# Altium footprint library 36911600000.PcbLib: 1 footprints
Each footprint in its own frame and in the unit in brackets; x right, y up, seen from the top. Pads: shape width x height; smd on the part's side, far side on the other; paste and mask are expansions set on the pad; w line width, h text height; cw(c..) or ccw(c..) is an arc to the next point about the centre after c.
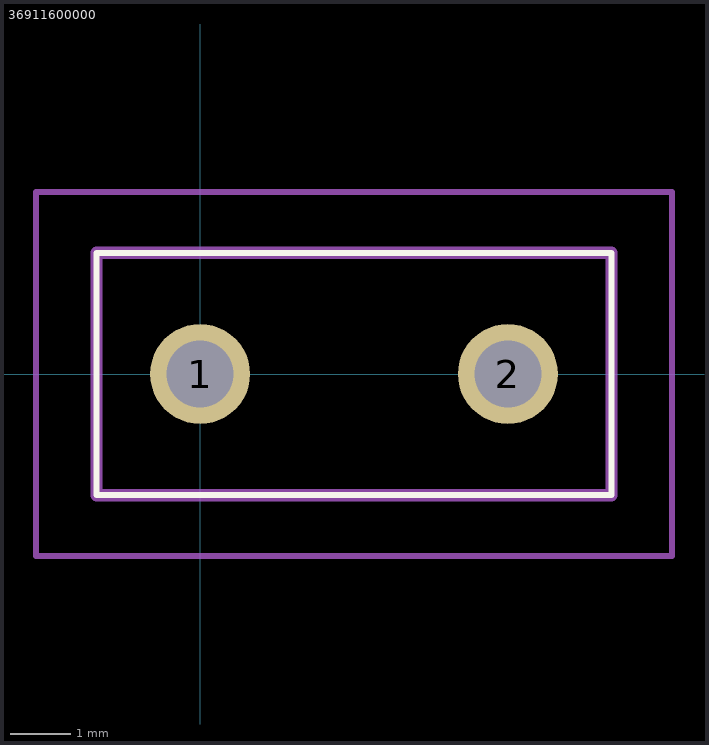
[diagram p0: the footprint, top view; thin cyan lines are the x and y axes]

## 36911600000 [mm]
pads (2):
  round 1.65 hole 1.1: 1(0,0) 2(5.08,0)
Top Overlay:
  lines w0.1: -1.71,-2 -1.71,2 6.79,2 6.79,-2 -1.71,-2
Mechanical 15:
  lines w0.2: -1.71,-2 -1.71,2 6.79,2 6.79,-2 -1.71,-2
Mechanical 20:
  lines w0.1: -2.71,-3 -2.71,3 7.79,3 7.79,-3 -2.71,-3
3D body "36911600000.stp": height 8, standoff -4, extent -1.71,-2 6.79,2